# EAGLE library part LM2674-5VBUCK (library LM2674-5v-buck)
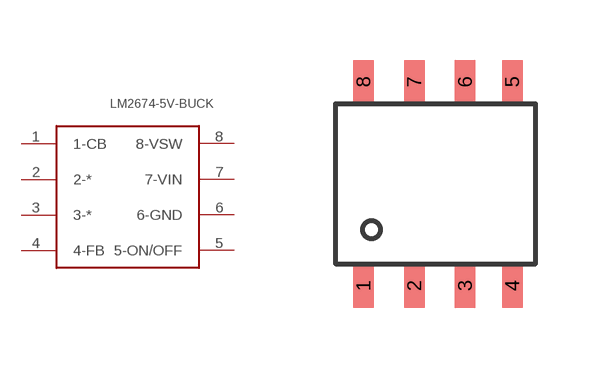
[diagram p0: symbol with the pads of LM2674; footprint LM2674]

Designator prefix LM2674-5V-BUCK

## LM2674-5VBUCK  [LM2674]
1  1-CB
2  2-*
3  3-*
4  4-FB
5  5-ON/OFF
6  6-GND
7  7-VIN
8  8-VSW

## Footprint LM2674 (pad centres in mm)
smd 0.51 x 1.1: 1 0,0; 2 1.27,0; 3 2.54,0; 4 3.72,0; 5 3.72,5.1; 6 2.54,5.1; 7 1.27,5.1; 8 0,5.1